# Altium integrated library Atmel Microcontroller AVR UC3.IntLib: 227 symbols (part 32 of 32)
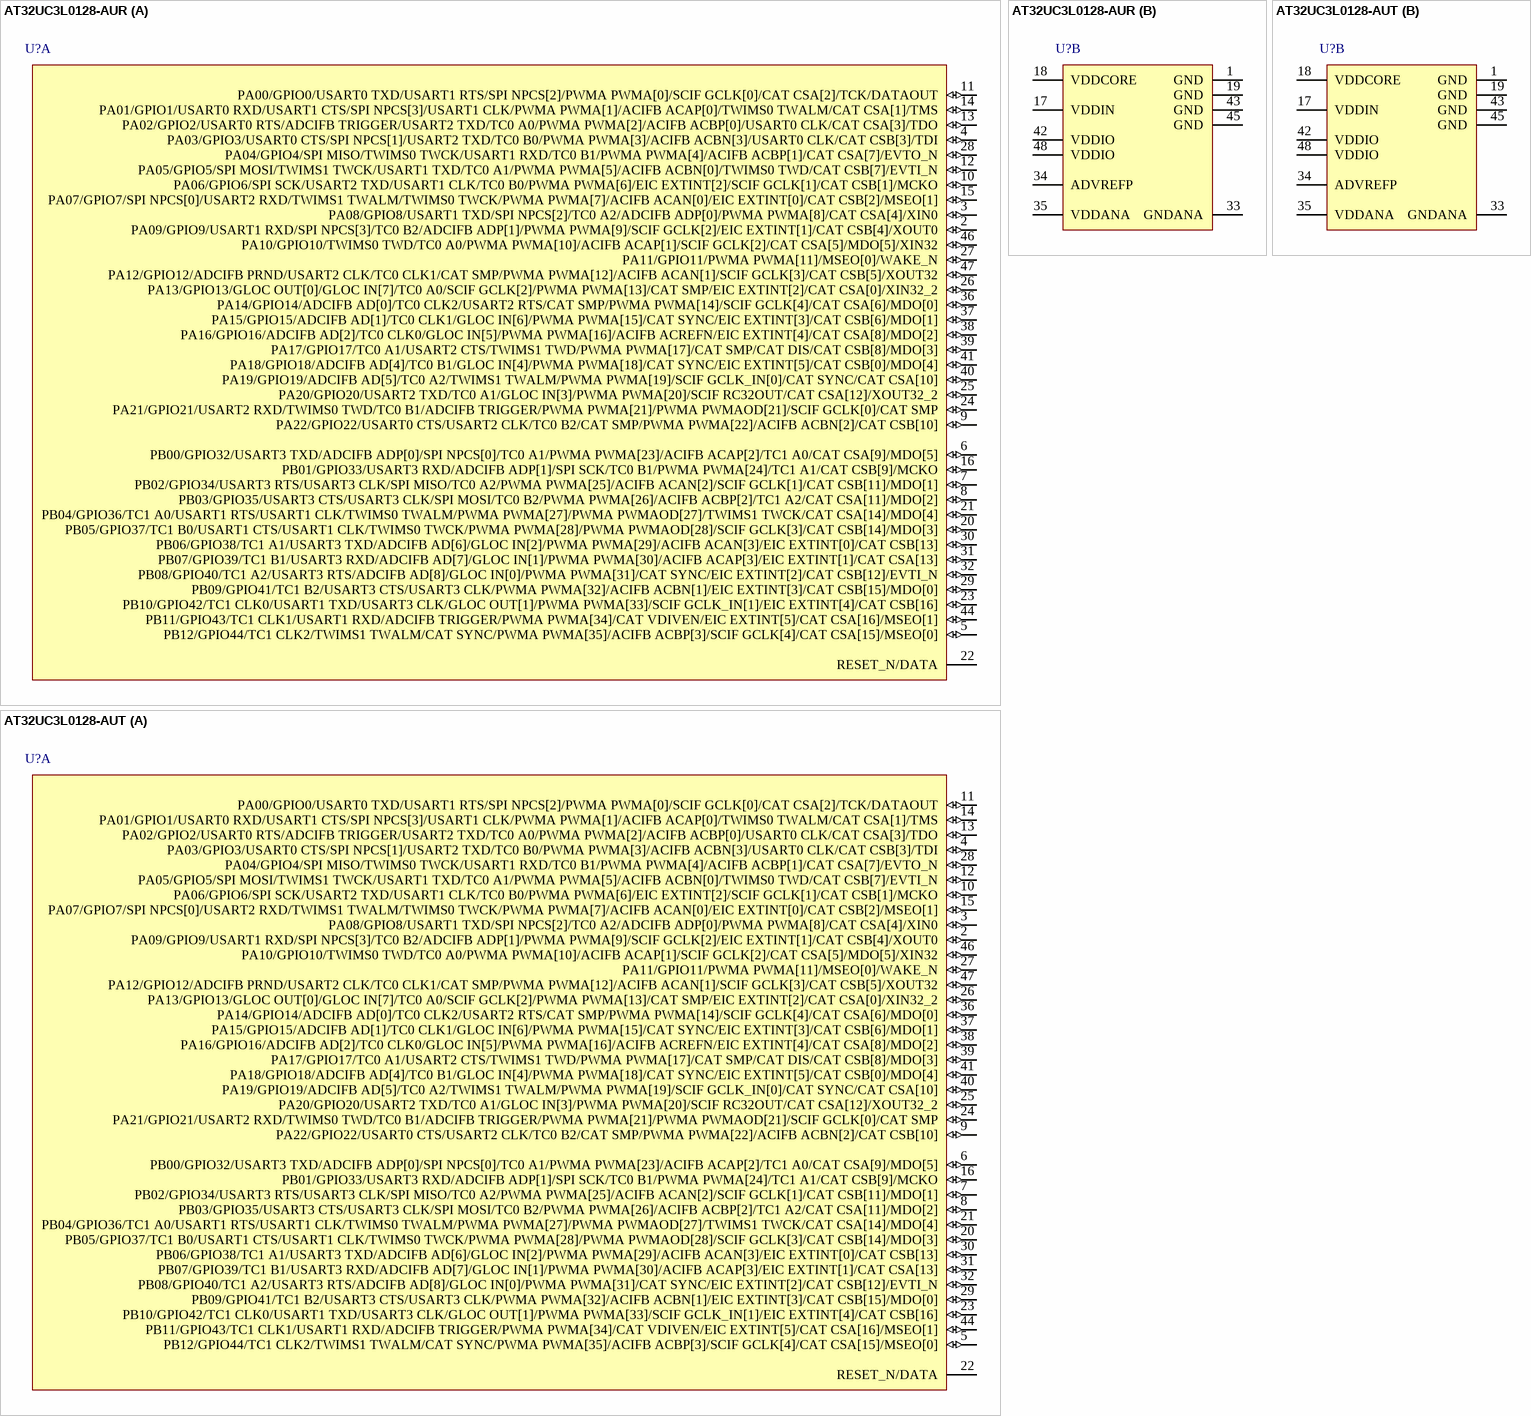
[diagram p259: symbols AT32UC3L0128-AUR to AT32UC3L0128-AUT]

## AT32UC3L0128-AUR
designator U?
32-bit AVR Microcontroller, 50MHz, 128KB Flash, CAT Module, FlashVault code protection, 36 GPIO Pins, 48-pin TQFP, Industrial Grade (-40°C to 85°C), Reel; DatasheetVersion: revA, Dec-2011; PackageVersion: 2011; PackageReference: TQFP48; PackageDescription: 48-Pin Thin Quad Flat Pack, 7 x 7 x 1 mm Body, 0.5 mm Pitch; Code_JEDEC: MS-026; ComponentLink1Description: Manufacturer URL; ComponentLink1URL: http://www.atmel.com/; ComponentLink2Description: AT32UC3L0 Series Datasheet; ComponentLink2URL: http://www.atmel.com/dyn/resources/prod_documents/doc32145.pdf; ComponentLink3Description: AT32UC3L0 Series Summary; ComponentLink3URL: http://www.atmel.com/dyn/resources/prod_documents/32145s.pdf
footprint TQFP48_N (Thin QFP, 48-Leads, Body 7x7mm, Pitch 0.5mm, IPC Medium Density)
footprint TQFP48_L (Thin QFP, 48-Leads, Body 7x7mm, Pitch 0.5mm, IPC High Density)
footprint TQFP48_M (Thin QFP, 48-Leads, Body 7x7mm, Pitch 0.5mm, IPC Low Density)
part A pins: 2 PA09/GPIO9/USART1 RXD/SPI NPCS[3]/TC0 B2/ADCIFB ADP[1]/PWMA PWMA[9]/SCIF GCLK[2]/EIC EXTINT[1]/CAT CSB[4]/XOUT0 (io), 3 PA08/GPIO8/USART1 TXD/SPI NPCS[2]/TC0 A2/ADCIFB ADP[0]/PWMA PWMA[8]/CAT CSA[4]/XIN0 (io), 4 PA03/GPIO3/USART0 CTS/SPI NPCS[1]/USART2 TXD/TC0 B0/PWMA PWMA[3]/ACIFB ACBN[3]/USART0 CLK/CAT CSB[3]/TDI (io), 5 PB12/GPIO44/TC1 CLK2/TWIMS1 TWALM/CAT SYNC/PWMA PWMA[35]/ACIFB ACBP[3]/SCIF GCLK[4]/CAT CSA[15]/MSEO[0] (io), 6 PB00/GPIO32/USART3 TXD/ADCIFB ADP[0]/SPI NPCS[0]/TC0 A1/PWMA PWMA[23]/ACIFB ACAP[2]/TC1 A0/CAT CSA[9]/MDO[5] (io), 7 PB02/GPIO34/USART3 RTS/USART3 CLK/SPI MISO/TC0 A2/PWMA PWMA[25]/ACIFB ACAN[2]/SCIF GCLK[1]/CAT CSB[11]/MDO[1] (io), 8 PB03/GPIO35/USART3 CTS/USART3 CLK/SPI MOSI/TC0 B2/PWMA PWMA[26]/ACIFB ACBP[2]/TC1 A2/CAT CSA[11]/MDO[2] (io), 9 PA22/GPIO22/USART0 CTS/USART2 CLK/TC0 B2/CAT SMP/PWMA PWMA[22]/ACIFB ACBN[2]/CAT CSB[10] (io), 10 PA06/GPIO6/SPI SCK/USART2 TXD/USART1 CLK/TC0 B0/PWMA PWMA[6]/EIC EXTINT[2]/SCIF GCLK[1]/CAT CSB[1]/MCKO (io), 11 PA00/GPIO0/USART0 TXD/USART1 RTS/SPI NPCS[2]/PWMA PWMA[0]/SCIF GCLK[0]/CAT CSA[2]/TCK/DATAOUT (io), 12 PA05/GPIO5/SPI MOSI/TWIMS1 TWCK/USART1 TXD/TC0 A1/PWMA PWMA[5]/ACIFB ACBN[0]/TWIMS0 TWD/CAT CSB[7]/EVTI_N (io), 13 PA02/GPIO2/USART0 RTS/ADCIFB TRIGGER/USART2 TXD/TC0 A0/PWMA PWMA[2]/ACIFB ACBP[0]/USART0 CLK/CAT CSA[3]/TDO (io), 14 PA01/GPIO1/USART0 RXD/USART1 CTS/SPI NPCS[3]/USART1 CLK/PWMA PWMA[1]/ACIFB ACAP[0]/TWIMS0 TWALM/CAT CSA[1]/TMS (io), 15 PA07/GPIO7/SPI NPCS[0]/USART2 RXD/TWIMS1 TWALM/TWIMS0 TWCK/PWMA PWMA[7]/ACIFB ACAN[0]/EIC EXTINT[0]/CAT CSB[2]/MSEO[1] (io), 16 PB01/GPIO33/USART3 RXD/ADCIFB ADP[1]/SPI SCK/TC0 B1/PWMA PWMA[24]/TC1 A1/CAT CSB[9]/MCKO (io), 20 PB05/GPIO37/TC1 B0/USART1 CTS/USART1 CLK/TWIMS0 TWCK/PWMA PWMA[28]/PWMA PWMAOD[28]/SCIF GCLK[3]/CAT CSB[14]/MDO[3] (io), 21 PB04/GPIO36/TC1 A0/USART1 RTS/USART1 CLK/TWIMS0 TWALM/PWMA PWMA[27]/PWMA PWMAOD[27]/TWIMS1 TWCK/CAT CSA[14]/MDO[4] (io), 22 RESET_N/DATA (power), 23 PB10/GPIO42/TC1 CLK0/USART1 TXD/USART3 CLK/GLOC OUT[1]/PWMA PWMA[33]/SCIF GCLK_IN[1]/EIC EXTINT[4]/CAT CSB[16] (io), 24 PA21/GPIO21/USART2 RXD/TWIMS0 TWD/TC0 B1/ADCIFB TRIGGER/PWMA PWMA[21]/PWMA PWMAOD[21]/SCIF GCLK[0]/CAT SMP (io), 25 PA20/GPIO20/USART2 TXD/TC0 A1/GLOC IN[3]/PWMA PWMA[20]/SCIF RC32OUT/CAT CSA[12]/XOUT32_2 (io), 26 PA13/GPIO13/GLOC OUT[0]/GLOC IN[7]/TC0 A0/SCIF GCLK[2]/PWMA PWMA[13]/CAT SMP/EIC EXTINT[2]/CAT CSA[0]/XIN32_2 (io), 27 PA11/GPIO11/PWMA PWMA[11]/MSEO[0]/WAKE_N (io), 28 PA04/GPIO4/SPI MISO/TWIMS0 TWCK/USART1 RXD/TC0 B1/PWMA PWMA[4]/ACIFB ACBP[1]/CAT CSA[7]/EVTO_N (io), 29 PB09/GPIO41/TC1 B2/USART3 CTS/USART3 CLK/PWMA PWMA[32]/ACIFB ACBN[1]/EIC EXTINT[3]/CAT CSB[15]/MDO[0] (io), 30 PB06/GPIO38/TC1 A1/USART3 TXD/ADCIFB AD[6]/GLOC IN[2]/PWMA PWMA[29]/ACIFB ACAN[3]/EIC EXTINT[0]/CAT CSB[13] (io), 31 PB07/GPIO39/TC1 B1/USART3 RXD/ADCIFB AD[7]/GLOC IN[1]/PWMA PWMA[30]/ACIFB ACAP[3]/EIC EXTINT[1]/CAT CSA[13] (io), 32 PB08/GPIO40/TC1 A2/USART3 RTS/ADCIFB AD[8]/GLOC IN[0]/PWMA PWMA[31]/CAT SYNC/EIC EXTINT[2]/CAT CSB[12]/EVTI_N (io), 36 PA14/GPIO14/ADCIFB AD[0]/TC0 CLK2/USART2 RTS/CAT SMP/PWMA PWMA[14]/SCIF GCLK[4]/CAT CSA[6]/MDO[0] (io), 37 PA15/GPIO15/ADCIFB AD[1]/TC0 CLK1/GLOC IN[6]/PWMA PWMA[15]/CAT SYNC/EIC EXTINT[3]/CAT CSB[6]/MDO[1] (io), 38 PA16/GPIO16/ADCIFB AD[2]/TC0 CLK0/GLOC IN[5]/PWMA PWMA[16]/ACIFB ACREFN/EIC EXTINT[4]/CAT CSA[8]/MDO[2] (io), 39 PA17/GPIO17/TC0 A1/USART2 CTS/TWIMS1 TWD/PWMA PWMA[17]/CAT SMP/CAT DIS/CAT CSB[8]/MDO[3] (io), 40 PA19/GPIO19/ADCIFB AD[5]/TC0 A2/TWIMS1 TWALM/PWMA PWMA[19]/SCIF GCLK_IN[0]/CAT SYNC/CAT CSA[10] (io), 41 PA18/GPIO18/ADCIFB AD[4]/TC0 B1/GLOC IN[4]/PWMA PWMA[18]/CAT SYNC/EIC EXTINT[5]/CAT CSB[0]/MDO[4] (io), 44 PB11/GPIO43/TC1 CLK1/USART1 RXD/ADCIFB TRIGGER/PWMA PWMA[34]/CAT VDIVEN/EIC EXTINT[5]/CAT CSA[16]/MSEO[1] (io), 46 PA10/GPIO10/TWIMS0 TWD/TC0 A0/PWMA PWMA[10]/ACIFB ACAP[1]/SCIF GCLK[2]/CAT CSA[5]/MDO[5]/XIN32 (io), 47 PA12/GPIO12/ADCIFB PRND/USART2 CLK/TC0 CLK1/CAT SMP/PWMA PWMA[12]/ACIFB ACAN[1]/SCIF GCLK[3]/CAT CSB[5]/XOUT32 (io)
part B pins: 1 GND (power), 17 VDDIN (power), 18 VDDCORE (power), 19 GND (power), 33 GNDANA (power), 34 ADVREFP (power), 35 VDDANA (power), 42 VDDIO (power), 43 GND (power), 45 GND (power), 48 VDDIO (power)